# Altium footprint library 1803484.PcbLib: 1 footprints
Each footprint in its own frame and in the unit in brackets; x right, y up, seen from the top. Pads: shape width x height; smd on the part's side, far side on the other; paste and mask are expansions set on the pad; w line width, h text height; cw(c..) or ccw(c..) is an arc to the next point about the centre after c.
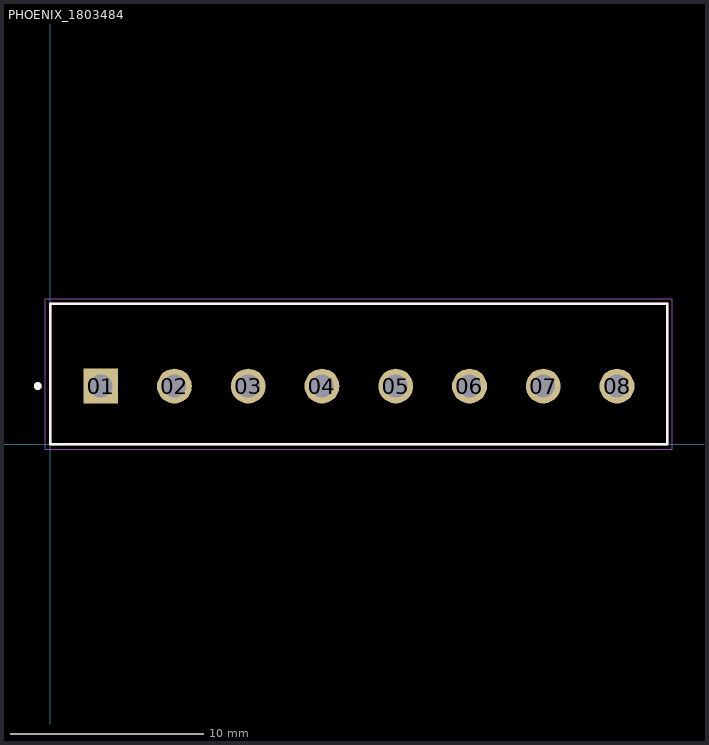
[diagram p0: the footprint, top view; thin cyan lines are the x and y axes]

## PHOENIX_1803484 [mm]
pads (8):
  rect 1.8x1.8 hole 1.2: 01(2.6,3)
  round 1.8 hole 1.2: 02(6.41,3) 03(10.22,3) 04(14.03,3) 05(17.84,3) 06(21.65,3) 07(25.46,3) 08(29.27,3)
Top Overlay:
  circle w0.2: c-0.65,3 r0.1
  lines w0.127: 0,0 0,7.25 31.87,7.25 31.87,0 0,0
Mechanical 13:
  circle w0.2: c-0.65,3 r0.1
  lines w0.127: 0,0 0,7.25 31.87,7.25 31.87,0 0,0
Mechanical 15:
  lines w0.05: -0.25,-0.25 -0.25,7.5 32.12,7.5 32.12,-0.25 -0.25,-0.25
3D body "1803484.stp": height 9.2, standoff -3.4, extent 0,0 31.871,7.25